# EAGLE library part ADS7952SRHBT (library open_covg)
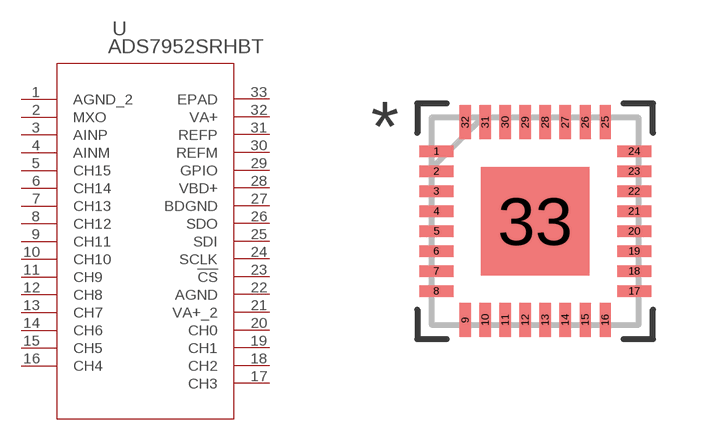
[diagram p11: symbol with the pads of RHB32_2P7X2P7_TEX; footprint RHB32_2P7X2P7_TEX]

Designator prefix U

## ADS7952SRHBT (BUILT_BY: EMA_Jessica; COPYRIGHT: Copyright (C) 2018 Accelerated Designs. All rights reserved; MANUFACTURER_PART_NUMBER: ADS7952SRHBT; SOURCELIBRARY: TI_2019-03-25_2; VENDOR: Texas Instruments)  [RHB32_2P7X2P7_TEX]
1  AGND_2  pwr
2  MXO  out
3  AINP  in
4  AINM  in
5  CH15  in
6  CH14  in
7  CH13  in
8  CH12  in
9  CH11  in
10  CH10  in
11  CH9  in
12  CH8  in
13  CH7  in
14  CH6  in
15  CH5  in
16  CH4  in
17  CH3  in
18  CH2  in
19  CH1  in
20  CH0  in
21  VA+_2  pwr
22  AGND  pwr
23  !CS  in
24  SCLK  in
25  SDI  in
26  SDO  out
27  BDGND  pwr
28  VBD+  pwr
29  GPIO
30  REFM  in
31  REFP  in
32  VA+  pwr
33  EPAD  pwr

## Footprint RHB32_2P7X2P7_TEX (pad centres in mm)
smd 0.85 x 0.28: 1 -2.475,1.75; 2 -2.475,1.25; 3 -2.475,0.75; 4 -2.475,0.25; 5 -2.475,-0.25; 6 -2.475,-0.75; 7 -2.475,-1.25; 8 -2.475,-1.75; 17 2.475,-1.75; 18 2.475,-1.25; 19 2.475,-0.75; 20 2.475,-0.25; 21 2.475,0.25; 22 2.475,0.75; 23 2.475,1.25; 24 2.475,1.75
smd 0.28 x 0.85: 9 -1.75,-2.475; 10 -1.25,-2.475; 11 -0.75,-2.475; 12 -0.25,-2.475; 13 0.25,-2.475; 14 0.75,-2.475; 15 1.25,-2.475; 16 1.75,-2.475; 25 1.75,2.475; 26 1.25,2.475; 27 0.75,2.475; 28 0.25,2.475; 29 -0.25,2.475; 30 -0.75,2.475; 31 -1.25,2.475; 32 -1.75,2.475
smd 2.718 x 2.718: 33 0,0